# EAGLE library part 5555153-1 (library ruark2)
Jack Modular Connector 8p8c (RJ45, Ethernet) 90° Angle (Right) Shielded Cat3
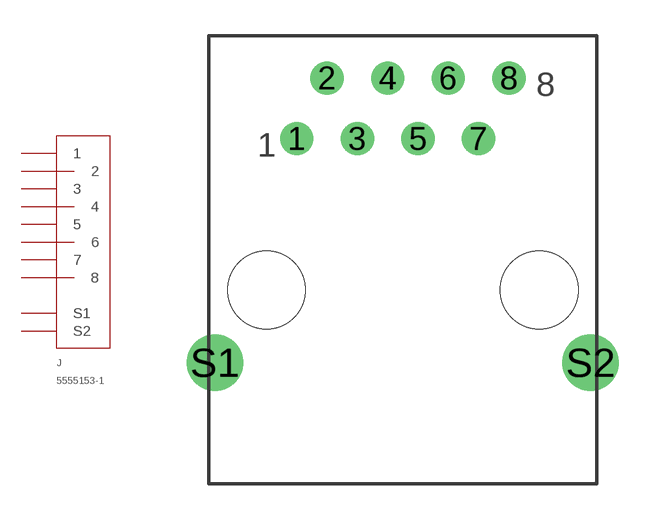
[diagram p133: symbol with the pads of 5555153-1; footprint 5555153-1]

Designator prefix J

## 5555153-1 (PARTNO: A31438-ND)  [5555153-1]
1  1
2  2
3  3
4  4
5  5
6  6
7  7
8  8
S1  S1
S2  S2

## Footprint 5555153-1 (pad centres in mm)
drill 0.889: 1 -4.445,6.35; 2 -3.175,8.89; 3 -1.905,6.35; 4 -0.635,8.89; 5 0.635,6.35; 6 1.905,8.89; 7 3.175,6.35; 8 4.445,8.89
drill 1.575: S1 -7.874,-3.048; S2 7.874,-3.048
hole 3.251 at -5.715,0
hole 3.251 at 5.715,0